# Altium footprint library CAPPM7343X310N.PcbLib: 1 footprints
Each footprint in its own frame and in the unit in brackets; x right, y up, seen from the top. Pads: shape width x height; smd on the part's side, far side on the other; paste and mask are expansions set on the pad; w line width, h text height; cw(c..) or ccw(c..) is an arc to the next point about the centre after c.
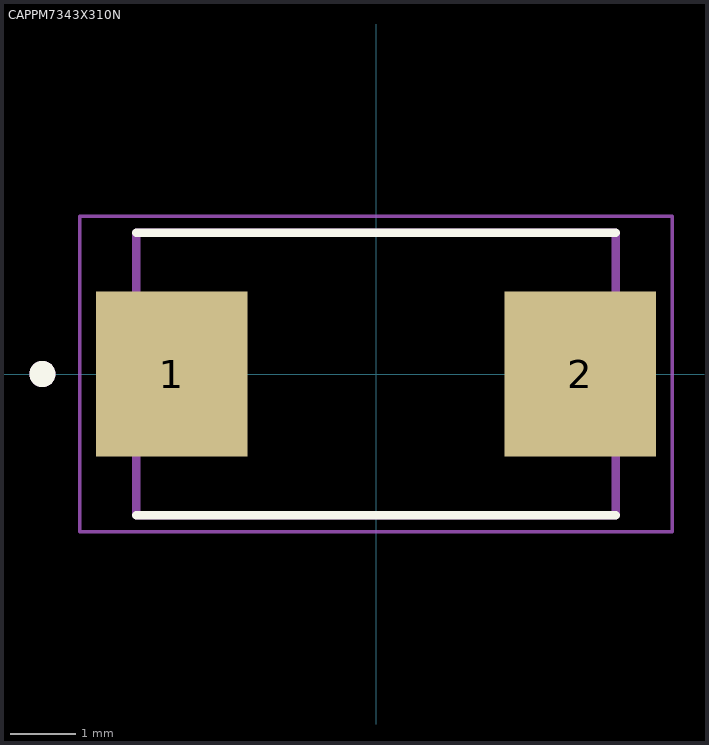
[diagram p0: the footprint, top view; thin cyan lines are the x and y axes]

## CAPPM7343X310N [mm]
height 3.1
pads (2):
  rect 2.3x2.52 smd: 1(-3.11,0) 2(3.11,0)
Top Overlay:
  circle w0.2: c-5.08,0 r0.1
  lines w0.127: -3.65,-2.15 3.65,-2.15 ; -3.65,2.15 3.65,2.15
Mechanical 13:
  circle w0.2: c-5.08,0 r0.1
  lines w0.127: -3.65,-2.15 3.65,-2.15 3.65,2.15 -3.65,2.15 -3.65,-2.15
Mechanical 15:
  lines w0.05: -4.51,-2.4 4.51,-2.4 4.51,2.4 -4.51,2.4 -4.51,-2.4
3D body "step_temp.STEP": height 3.1, standoff 0, extent -3.65,-2.15 3.65,2.15